# EAGLE library part M08 (library Flying Camp Design)
Header 8
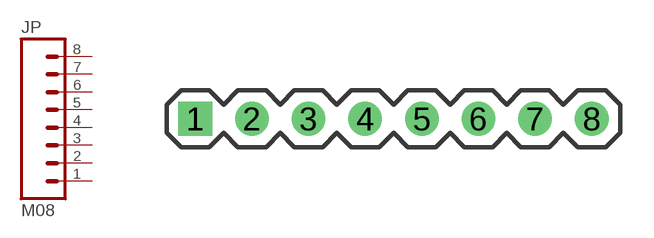
[diagram p5: symbol with the pads of 1X08; footprint 1X08]

Designator prefix JP

## M081X08  [1X08]
1  1  pas
2  2  pas
3  3  pas
4  4  pas
5  5  pas
6  6  pas
7  7  pas
8  8  pas

## Footprint 1X08 (pad centres in mm)
drill 1 square: 1 0,0
drill 1: 2 2.54,0; 3 5.08,0; 4 7.62,0; 5 10.16,0; 6 12.7,0; 7 15.24,0; 8 17.78,0